# EAGLE library part SN74HCT08 (library template)
Quadruple 2-Input Positive-AND Gates
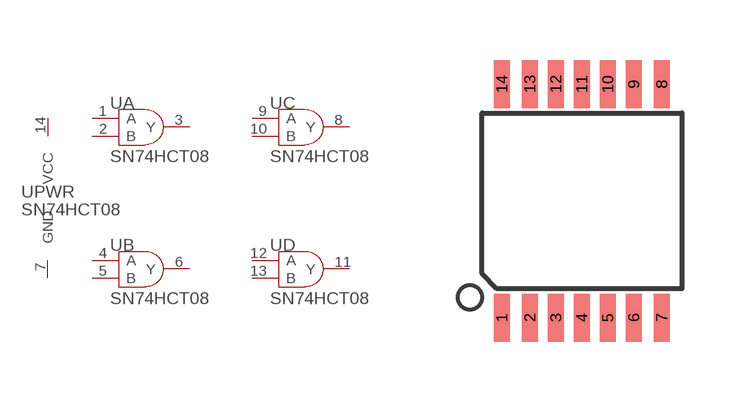
[diagram p17: symbol with the pads of TSSOP14; footprint TSSOP14]

Designator prefix U; gates PWR=POWER-GND A=AND-GATE B=AND-GATE C=AND-GATE D=AND-GATE

## SN74HCT08PW  [TSSOP14]
1  A:A
2  A:B
3  A:Y
4  B:A
5  B:B
6  B:Y
7  PWR:GND
8  C:Y
9  C:A
10  C:B
11  D:Y
12  D:A
13  D:B
14  PWR:VCC

## Footprint TSSOP14 (pad centres in mm)
smd 0.4 x 1.2: 1 -2,-2.925; 2 -1.3,-2.925; 3 -0.65,-2.925; 4 0,-2.925; 5 0.65,-2.925; 6 1.3,-2.925; 7 2,-2.925; 8 2,2.925; 9 1.3,2.925; 10 0.65,2.925; 11 0,2.925; 12 -0.65,2.925; 13 -1.3,2.925; 14 -2,2.925